# Altium schematic symbol library conn-2x1_0.Schlib: 1 symbol
Pins are listed as number, name and electrical type; pins without a type are passive.

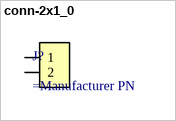
[diagram p0: symbol conn-2x1_0]

## conn-2x1_0
designator J?
Connector, 2x1
pins: 1, 2